# EAGLE library part ITS724GFUMA1 (library IoTMakers)
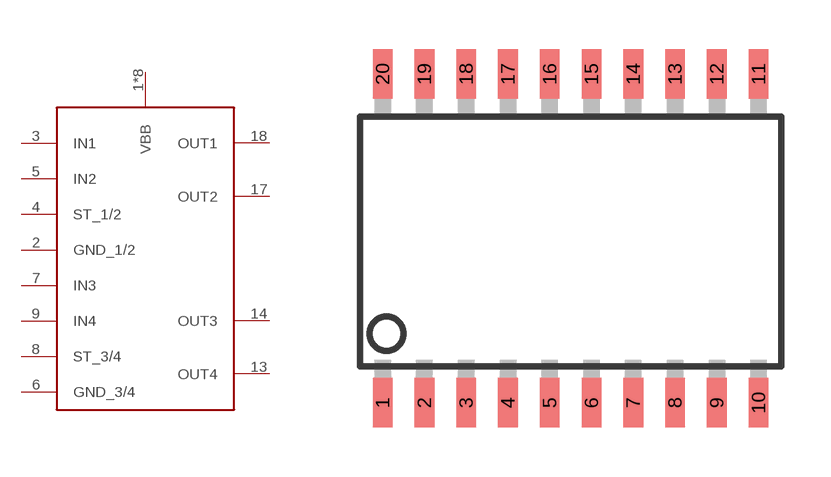
[diagram p21: symbol with the pads of SOIC20S; footprint SOIC20S]

Designator prefix -

## ITS724GFUMA1  [SOIC20S]
1  VBB
2  GND_1/2
3  IN1
4  ST_1/2
5  IN2
6  GND_3/4
7  IN3
8  ST_3/4
9  IN4
10  VBB
11  VBB
12  VBB
13  OUT4
14  OUT3
15  VBB
16  VBB
17  OUT2
18  OUT1
19  VBB
20  VBB

## Footprint SOIC20S (pad centres in mm)
Wide Plastic Gull Wing Small Outline Package
smd 0.6 x 1.5: 1 -5.715,-5; 2 -4.445,-5; 3 -3.175,-5; 4 -1.905,-5; 5 -0.635,-5; 6 0.635,-5; 7 1.905,-5; 8 3.175,-5; 9 4.445,-5; 10 5.715,-5; 11 5.715,5; 12 4.445,5; 13 3.175,5; 14 1.905,5; 15 0.635,5; 16 -0.635,5; 17 -1.905,5; 18 -3.175,5; 19 -4.445,5; 20 -5.715,5